# Altium footprint library cPCI-SPE-METRAL4000_Receptable.PcbLib: 1 footprints
Each footprint in its own frame and in the unit in brackets; x right, y up, seen from the top. Pads: shape width x height; smd on the part's side, far side on the other; paste and mask are expansions set on the pad; w line width, h text height; cw(c..) or ccw(c..) is an arc to the next point about the centre after c.
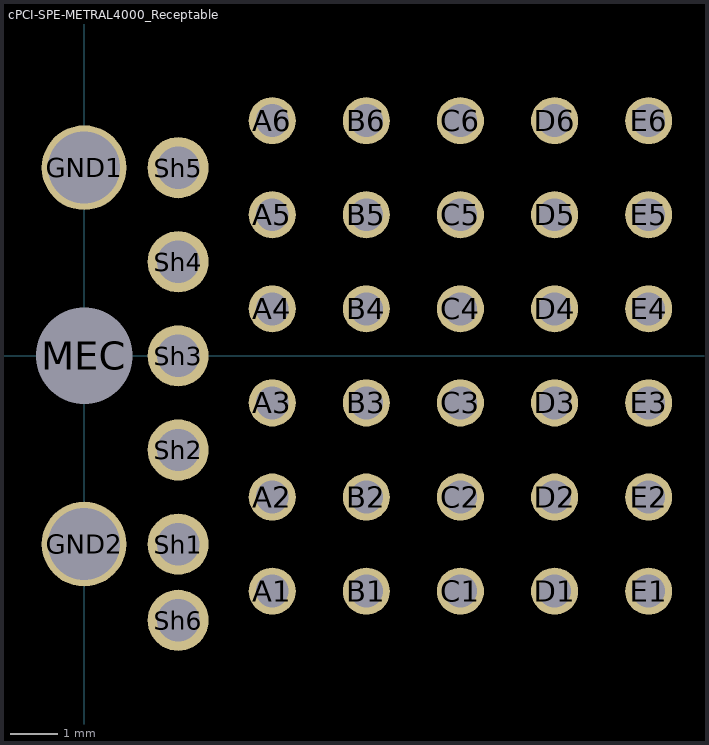
[diagram p0: the footprint, top view; thin cyan lines are the x and y axes]

## cPCI-SPE-METRAL4000_Receptable [mm]
pads (39):
  round 1 hole 0.7: A1(4,-5) A2(4,-3) A3(4,-1) A4(4,1) A5(4,3) A6(4,5) B1(6,-5) B2(6,-3) B3(6,-1) B4(6,1) B5(6,3) B6(6,5) C1(8,-5) C2(8,-3) C3(8,-1) C4(8,1) C5(8,3) C6(8,5) D1(10,-5) D2(10,-3) D3(10,-1) D4(10,1) D5(10,3) D6(10,5) E1(12,-5) E2(12,-3) E3(12,-1) E4(12,1) E5(12,3) E6(12,5)
  round 1.8 hole 1.53: GND1(0,4) GND2(0,-4)
  round 2 hole 2.05 unplated: MEC(0,0)
  round 1.3 hole 0.9: Sh1(2,-4) Sh2(2,-2) Sh3(2,0) Sh4(2,2) Sh5(2,4) Sh6(2,-5.62)
3D body: height 10.8, standoff -3, extent -9.5,-6.02 14.35,5.99